# Altium schematic symbol library Movandi_13.SchLib: 2 symbols
Pins are listed as number, name and electrical type; pins without a type are passive.

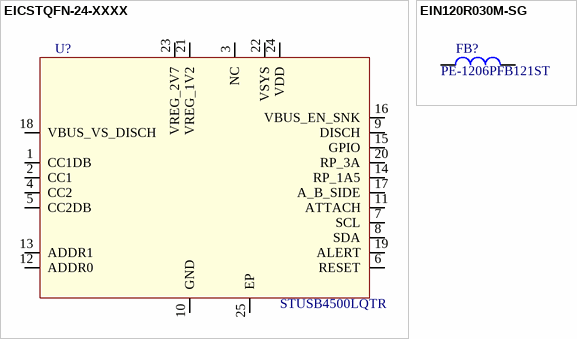
[diagram p0: symbols EICSTQFN-24-XXXX to EIN120R030M-SG]

## EICSTQFN-24-XXXX
designator U?, comment value STUSB4500LQTR  (hidden comment: STANDALONE USB TYPE-C PORT CONTR)
Internal Part Number: EICSTQFN-24-XXXX; Manufacturer: STMicroelectronics; Vendor Part Number: 497-STUSB4500LQCT-ND; 2nd Auxiliary Field: Controller; 3rd Auxiliary Field: ROHS3 Compliant; Component Height (mm): 1mm; Temp Co: -40°C ~ 105°C (TA); Vendor Name: Digi-Key; 1st Auxiliary Field: 3V ~ 22V; 4th Auxiliary Field: *; Part Type: STANDALONE USB TYPE-C PORT CONTR; Manufacturer Part Number: STUSB4500LQTR
footprint QFN50P400X400X100-25N
pins: 1 CC1DB, 2 CC1, 3 NC, 4 CC2, 5 CC2DB, 6 RESET, 7 SCL, 8 SDA, 9 DISCH, 10 GND, 11 ATTACH, 12 ADDR0, 13 ADDR1, 14 RP_1A5, 15 GPIO, 16 VBUS_EN_SNK, 17 A_B_SIDE, 18 VBUS_VS_DISCH, 19 ALERT, 20 RP_3A, 21 VREG_1V2, 22 VSYS, 23 VREG_2V7, 24 VDD, 25 EP

## EIN120R030M-SG
designator FB?, comment value PE-1206PFB121ST  (hidden comment: FERRITE BEAD 120 OHM 1206 1LN)
Manufacturer: Pulse Electronics Network; Internal Part Number: EIN120R030M-SG; Vendor Part Number: 553-2402-1-ND; 3rd Auxiliary Field: RoHS Compliant; Component Height (mm): 0.85mm; Temp Co: -40°C ~ 105°C; Vendor Name: Digi-Key; 2nd Auxiliary Field: 30mOhm; 1st Auxiliary Field: 3A; Manufacturer Part Number: PE-1206PFB121ST; Part Type: FERRITE BEAD 120 OHM 1206 1LN; 4th Auxiliary Field: *
footprint SMDL1206 (Footprint not found)
pins: 1, 2